# EAGLE library part STC3115 (library quentin)
lipo gauge
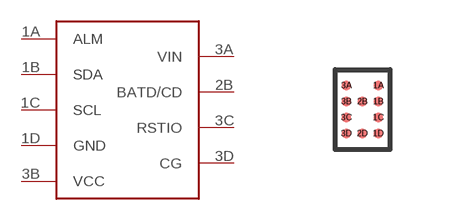
[diagram p12: symbol with the pads of CSP; footprint CSP]

Designator prefix -

## STC3115  [CSP]
1A  ALM
1B  SDA
1C  SCL
1D  GND
2B  BATD/CD
3A  VIN
3B  VCC
3C  RSTIO
3D  CG

## Footprint CSP (pad centres in mm)
smd 0.24 x 0.24: 1A 0.8,1.2; 1B 0.8,0.8; 1C 0.8,0.4; 1D 0.8,0; 2B 0.4,0.8; 2D 0.4,0; 3A 0,1.2; 3B 0,0.8; 3C 0,0.4; 3D 0,0